# Altium footprint library JZ300.PcbLib: 1 footprints
Each footprint in its own frame and in the unit in brackets; x right, y up, seen from the top. Pads: shape width x height; smd on the part's side, far side on the other; paste and mask are expansions set on the pad; w line width, h text height; cw(c..) or ccw(c..) is an arc to the next point about the centre after c.
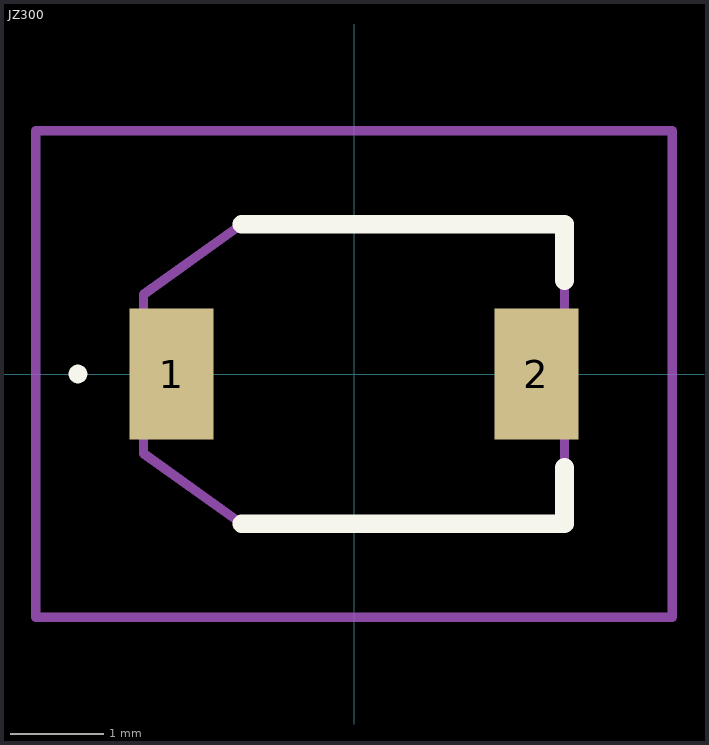
[diagram p0: the footprint, top view; thin cyan lines are the x and y axes]

## JZ300 [mm]
pads (2):
  rect 0.9x1.4 smd: 1(-1.95,0) 2(1.95,0)
Top Overlay:
  lines w0.1: -3,0 -3,0 ; -3,0 ccw(c-2.95,0) -2.9,0 ; -3,0 cw(c-2.95,0) -2.9,0 ; -2.9,0 -2.9,0
  lines w0.2: -1.2,-1.6 2.25,-1.6 2.25,-1 ; -1.2,1.6 2.25,1.6 2.25,1
Mechanical 15:
  lines w0.1: -2.25,-0.85 -2.25,0.85 -1.2,1.6 2.25,1.6 2.25,-1.6 0,-1.6 -1.2,-1.6 -2.25,-0.85
Mechanical 20:
  lines w0.1: -3.4,-2.6 3.4,-2.6 3.4,2.6 -3.4,2.6 -3.4,-2.6